# Altium footprint library PASSIVE_THD.PCBLIB: 248 footprints (part 9 of 16)
Each footprint in its own frame and in the unit in brackets; x right, y up, seen from the top. Pads: shape width x height; smd on the part's side, far side on the other; paste and mask are expansions set on the pad; w line width, h text height; cw(c..) or ccw(c..) is an arc to the next point about the centre after c.
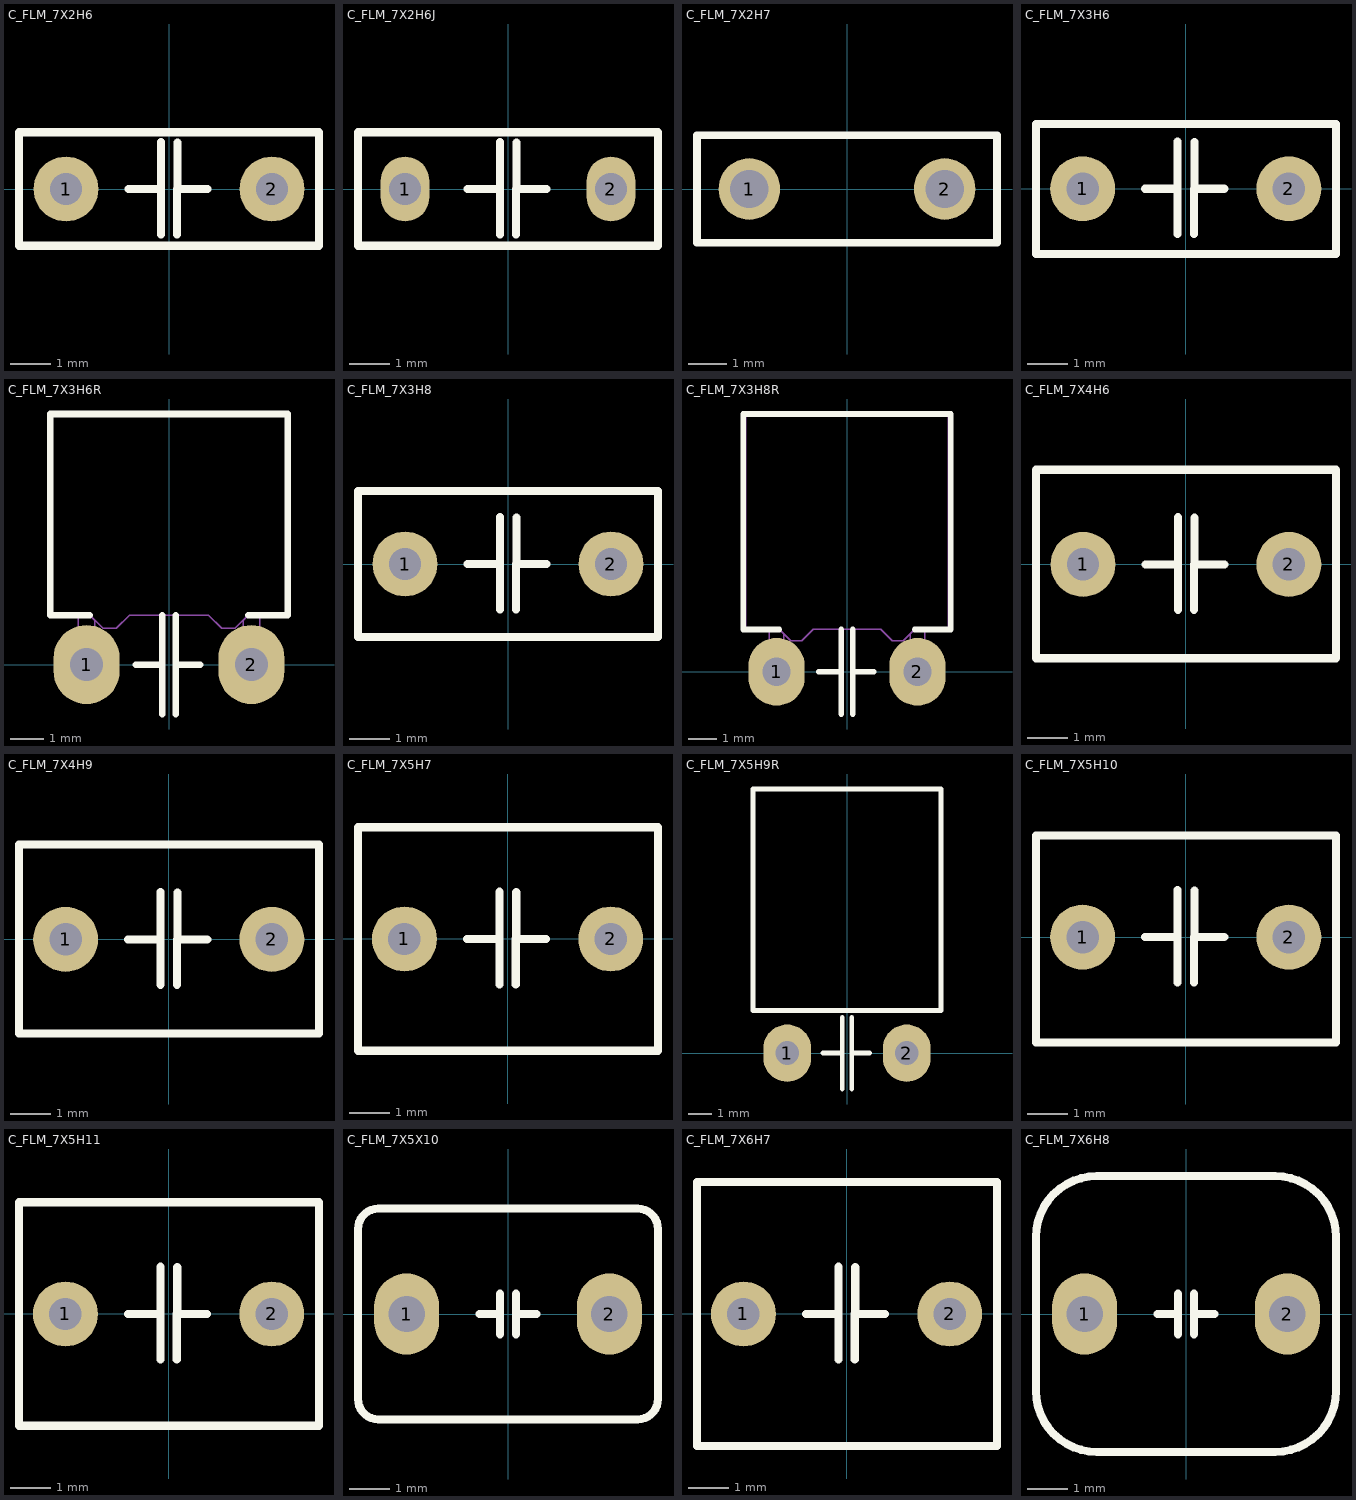
[diagram p8: the footprints below, top view; thin cyan lines are the x and y axes]

## C_FLM_7X2H6 [mm] "Capacitor, THT, Metallized Polyester Film with 7.2x2.5x6.5mm LxTxH"
height 6.5
pads (2):
  round 1.6 hole 0.8: 1(-2.54,0) 2(2.54,0)
TopOverlay:
  lines w0.2: -1,0 -0.2,0 ; -0.2,-1.119 -0.2,1.164 ; 0.2,-1.119 0.212,1.151 ; 0.2,0 0.95,0 ; -3.7,-1.4 3.7,-1.4 3.7,1.4 -3.7,1.4 -3.7,-1.4
3D body "FILM_RED_P500L720W250H650PD50.step": height 6.5, standoff -6.2, extent -3.6,-1.25 3.6,1.25

## C_FLM_7X2H6J [mm] "Capacitor, THT, J100, Metallized Polyester Film with 7.2x2.5x6.5mm LxTxH"
height 6.5
pads (2):
  oval 1.2x1.6 hole 0.8: 1(-2.54,0) 2(2.54,0)
TopOverlay:
  lines w0.2: -1,0 -0.2,0 ; -0.2,-1.119 -0.2,1.164 ; 0.2,-1.119 0.212,1.151 ; 0.2,0 0.95,0 ; -3.7,-1.4 3.7,-1.4 3.7,1.4 -3.7,1.4 -3.7,-1.4
3D body "User Library-J100.step": height 6.51, standoff -2.5, extent -3.6,-1.25 3.6,1.25

## C_FLM_7X2H7 [mm] "CAP, POLYESTER, 7.5x2.5x7mm pitch: 5.0mm"
pads (2):
  round 1.6 / inner round 1.6 / far side oval 1.6x2.4 hole 1: 1(-2.54,0) 2(2.54,0)
TopOverlay:
  lines w0.2: -3.9,-1.4 3.9,-1.4 3.9,1.4 -3.9,1.4 -3.9,-1.4
3D body "User Library-100n.step": height 7.6, standoff -4.6, extent -3.75,-1.25 3.75,1.25

## C_FLM_7X3H6 [mm] "Capacitor, THT, Metallized Polyester Film with 7.2x3.0x6.5mm LxTxH"
height 7.5
pads (2):
  round 1.6 hole 0.8: 1(-2.54,0) 2(2.54,0)
TopOverlay:
  lines w0.2: -1,0 -0.2,0 ; -0.2,-1.119 -0.2,1.164 ; 0.2,-1.119 0.212,1.151 ; 0.2,0 0.95,0 ; -3.69,-1.611 3.703,-1.611 3.703,1.6 -3.69,1.6 -3.69,-1.611
3D body "FILM_RED_P500L720W300H750PD50.step": height 7.5, standoff -6.2, extent -3.6,-1.5 3.6,1.5

## C_FLM_7X3H6R [mm] "Capacitor, THT, Metallized Polyester Film with 7.2x3.0x6.5mm LxTxH"
height 3
pads (2):
  oval 2x2.4 hole 1: 1(-2.5,0) 2(2.5,0)
TopOverlay:
  lines w0.2: -2.4,1.5 -3.6,1.5 -3.6,7.6 3.6,7.6 3.6,1.5 2.4,1.5 ; -1,0 -0.2,0 ; -0.2,-1.5 -0.2,1.5 ; 0.2,-1.5 0.2,1.5 ; 0.2,0 0.95,0
Mechanical13:
  lines w0.05: -2.75,0.75 -2.25,0.75 ; -2.75,1.5 -2.75,0 ccw(c-2.5,0) -2.25,0 -2.25,1.35 ; 2.25,0.75 2.75,0.75 ; 2.25,1.35 2.25,0 ccw(c2.5,0) 2.75,0 2.75,1.5 ; -3.6,1.5 -3.6,7.6 3.6,7.6 3.6,1.5 2.4,1.5 2,1.1 1.6,1.1 1.2,1.5 -1.2,1.5 -1.6,1.1 -2,1.1 -2.4,1.5 -3.6,1.5
3D body "CAPM50P720300X650_FLAT.STEP": height 3, standoff -1.78, extent -3.6,-0.249 3.6,7.6

## C_FLM_7X3H8 [mm] "Capacitor, THT, Metallized Polyester Film with 7.2x3.5x8.5mm LxTxH"
height 8.5
pads (2):
  round 1.6 hole 0.8: 1(-2.54,0) 2(2.54,0)
TopOverlay:
  lines w0.2: -1,0 -0.2,0 ; -0.2,-1.119 -0.2,1.164 ; 0.2,-1.119 0.212,1.151 ; 0.2,0 0.95,0 ; -3.7,-1.8 -3.7,1.8 3.7,1.8 3.7,-1.8 -3.7,-1.8
3D body "FILM_RED_P500L720W350H850PD50.step": height 8.5, standoff -6.2, extent -3.6,-1.75 3.6,1.75

## C_FLM_7X3H8R [mm] "Capacitor, THT, Metallized Polyester Film with 7.2x3.5x8.0mm LxTxH"
height 3.5
pads (2):
  oval 2x2.4 hole 1: 1(-2.5,0) 2(2.5,0)
TopOverlay:
  lines w0.2: -2.4,1.5 -3.683,1.5 -3.683,9.144 3.683,9.144 3.683,1.5 2.4,1.5 ; -1,0 -0.2,0 ; -0.2,-1.5 -0.2,1.5 ; 0.2,-1.5 0.2,1.5 ; 0.2,0 0.95,0
Mechanical13:
  lines w0.05: -2.75,0.75 -2.25,0.75 ; -2.75,1.5 -2.75,0 ccw(c-2.5,0) -2.25,0 -2.25,1.35 ; 2.25,0.75 2.75,0.75 ; 2.25,1.35 2.25,0 ccw(c2.5,0) 2.75,0 2.75,1.5 ; -3.6,1.5 -2.4,1.5 -2,1.1 -1.6,1.1 -1.2,1.5 1.2,1.5 1.6,1.1 2,1.1 2.4,1.5 3.6,1.5 3.6,9.1 -3.6,9.1 -3.6,1.5
3D body "CAPM50P720350X800_FLAT.STEP": height 3.5, standoff -1.78, extent -3.6,-0.249 3.6,9.1

## C_FLM_7X4H6 [mm] "Capacitor, THT, Metallized Polyester Film with 7.2x4.5x6mm LxTxH"
height 6
pads (2):
  round 1.6 hole 0.8: 1(-2.54,0) 2(2.54,0)
TopOverlay:
  lines w0.2: -1,0 -0.2,0 ; -0.2,-1.119 -0.2,1.164 ; 0.2,-1.119 0.212,1.151 ; 0.2,0 0.95,0 ; -3.7,-2.318 3.703,-2.318 3.703,2.336 -3.7,2.336 -3.7,-2.318
3D body "FILM_RED_P500L720W450H600PD50.step": height 6, standoff -6.2, extent -3.6,-2.25 3.6,2.25

## C_FLM_7X4H9 [mm] "Capacitor, THT, Metallized Polyester Film with 7.2x4.5x9.5mm LxTxH"
height 9.5
pads (2):
  round 1.6 hole 0.8: 1(-2.54,0) 2(2.54,0)
TopOverlay:
  lines w0.2: -1,0 -0.2,0 ; -0.2,-1.119 -0.2,1.164 ; 0.2,-1.119 0.212,1.151 ; 0.2,0 0.95,0 ; -3.69,-2.318 3.703,-2.318 3.703,2.336 -3.69,2.336 -3.69,-2.318
3D body "FILM_RED_P500L720W450H950PD50.step": height 9.5, standoff -6.2, extent -3.6,-2.25 3.6,2.25

## C_FLM_7X5H7 [mm] "Capacitor, THT, Metallized Polyester Film with 7.2x5.5x7mm LxTxH"
height 7
pads (2):
  round 1.6 hole 0.8: 1(-2.54,0) 2(2.54,0)
TopOverlay:
  lines w0.2: -1,0 -0.2,0 ; -0.2,-1.119 -0.2,1.164 ; 0.2,-1.119 0.212,1.151 ; 0.2,0 0.95,0 ; -3.683,-2.75 -3.683,2.75 3.703,2.75 3.703,-2.75 -3.683,-2.75
3D body "FILM_RED_P500L720W550H700PD50.step": height 7, standoff -6.2, extent -3.6,-2.75 3.6,2.75

## C_FLM_7X5H9R [mm] "Capacitor, THT, Metallized Polyester Film with 7.6x5.0x9.2mm LxTxH"
height 4.9
pads (2):
  oval 2x2.4 hole 1: 1(-2.5,0) 2(2.5,0)
TopOverlay:
  lines w0.2: -1,0 -0.2,0 ; -0.2,-1.5 -0.2,1.5 ; 0.2,-1.5 0.2,1.5 ; 0.2,0 0.95,0 ; -3.937,1.778 -3.937,11.049 3.937,11.049 3.937,1.778 -3.937,1.778
3D body "CAPM50P760490X990_FLAT.STEP": height 4.9, standoff -1.78, extent -3.8,-0.249 3.8,11

## C_FLM_7X5H10 [mm] "Capacitor, THT, Metallized Polyester Film with 7.2x5.0x10mm LxTxH"
height 10
pads (2):
  round 1.6 hole 0.8: 1(-2.54,0) 2(2.54,0)
TopOverlay:
  lines w0.2: -1,0 -0.2,0 ; -0.2,-1.119 -0.2,1.164 ; 0.2,-1.119 0.212,1.151 ; 0.2,0 0.95,0 ; -3.69,-2.593 3.703,-2.593 3.703,2.5 -3.69,2.5 -3.69,-2.593
3D body "FILM_RED_P500L720W500H1000PD50.step": height 10, standoff -6.2, extent -3.6,-2.5 3.6,2.5

## C_FLM_7X5H11 [mm] "Capacitor, THT, Metallized Polyester Film with 7.2x5.5x11.5mm LxTxH"
height 11.5
pads (2):
  round 1.6 hole 0.8: 1(-2.54,0) 2(2.54,0)
TopOverlay:
  lines w0.2: -1,0 -0.2,0 ; -0.2,-1.119 -0.2,1.164 ; 0.2,-1.119 0.212,1.151 ; 0.2,0 0.95,0 ; -3.683,-2.75 3.703,-2.75 3.703,2.75 -3.683,2.75 -3.683,-2.75
3D body "FILM_RED_P500L720W550H1150PD50.step": height 11.5, standoff -6.2, extent -3.6,-2.75 3.6,2.75

## C_FLM_7X5X10 [mm] "CAP, POLYESTER, 7.0X5.0x10mm pitch: 5.0mm"
height 7
pads (2):
  oval 1.6x2 hole 0.9: 1(-2.5,0) 2(2.5,0)
TopOverlay:
  lines w0.2: -0.7,0 -0.2,0 ; -0.2,-0.5 -0.2,0.5 ; 0.2,-0.5 0.2,0.5 ; 0.2,0 0.7,0 ; -3.7,-2.1 ccw(c-3.2,-2.1) -3.2,-2.6 3.2,-2.6 ccw(c3.2,-2.1) 3.7,-2.1 3.7,2.1 ccw(c3.2,2.1) 3.2,2.6 -3.2,2.6 ccw(c-3.2,2.1) -3.7,2.1 -3.7,-2.1
3D body "User Library-WIMA Capacitor_RM5-7.2X5X10.step": height 10, standoff -2.5, extent -3.6,-2.5 3.6,2.5

## C_FLM_7X6H7 [mm] "Capacitor, THT, Metallized Polyester Film with 7.2x6.5x7.0mm LxTxH"
height 7
pads (2):
  round 1.6 hole 0.8: 1(-2.54,0) 2(2.54,0)
TopOverlay:
  lines w0.2: -1,0 -0.2,0 ; -0.2,-1.119 -0.2,1.164 ; 0.2,-1.119 0.212,1.151 ; 0.2,0 0.95,0 ; -3.683,-3.25 -3.683,3.25 3.703,3.25 3.703,-3.25 -3.683,-3.25
3D body "FILM_RED_P500L720W650H800PD50.step": height 8, standoff -6.2, extent -3.6,-3.25 3.6,3.25

## C_FLM_7X6H8 [mm] "CAP, POLYESTER, 7.3X6.5mm pitch: 5.0mm"
height 10
pads (2):
  oval 1.6x2 hole 0.9: 1(-2.5,0) 2(2.5,0)
TopOverlay:
  lines w0.2: -0.7,0 -0.2,0 ; -0.2,-0.5 -0.2,0.5 ; 0.2,-0.5 0.2,0.5 ; 0.2,0 0.7,0 ; -3.7,-1.9 ccw(c-2.2,-1.9) -2.2,-3.4 2.2,-3.4 ccw(c2.2,-1.9) 3.7,-1.9 3.7,1.9 ccw(c2.2,1.9) 2.2,3.4 -2.2,3.4 ccw(c-2.2,1.9) -3.7,1.9 -3.7,-1.9
3D body "Cap, film, 7.3x6.5x10x5LS.STP": height 11, standoff -2, extent -3.65,-3.25 3.65,3.25